# EAGLE library part MICRO_SD (library mastrogippo)
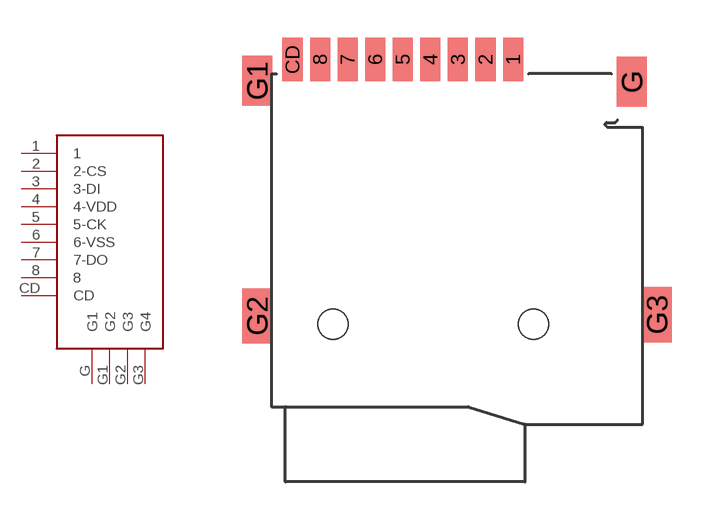
[diagram p27: symbol with the pads of MICRO_SD_C; footprint MICRO_SD_C]

Designator prefix -

## MICRO_SD  [MICRO_SD_C]
1  1
2  2-CS
3  3-DI
4  4-VDD
5  5-CK
6  6-VSS
7  7-DO
8  8
CD  CD
G  G1
G1  G2
G2  G3
G3  G4

## Footprint MICRO_SD_C (pad centres in mm)
smd 0.8 x 1.75: 1 2.83,7.07; 2 1.73,7.07; 3 0.63,7.07; 4 -0.47,7.07; 5 -1.57,7.07; 6 -2.67,7.07; 7 -3.77,7.07; 8 -4.87,7.07; CD -5.97,7.07
smd 1.2 x 2: G 7.57,6.18; G1 -7.38,6.23
smd 1.2 x 2.2: G2 -7.38,-3.17; G3 8.57,-3.12
hole 1.2 at -4.35,-3.5
hole 1.2 at 3.65,-3.5